# Altium footprint library 贴片.PcbLib: 190 footprints (part 11 of 13)
Each footprint in its own frame and in the unit in brackets; x right, y up, seen from the top. Pads: shape width x height; smd on the part's side, far side on the other; paste and mask are expansions set on the pad; w line width, h text height; cw(c..) or ccw(c..) is an arc to the next point about the centre after c.
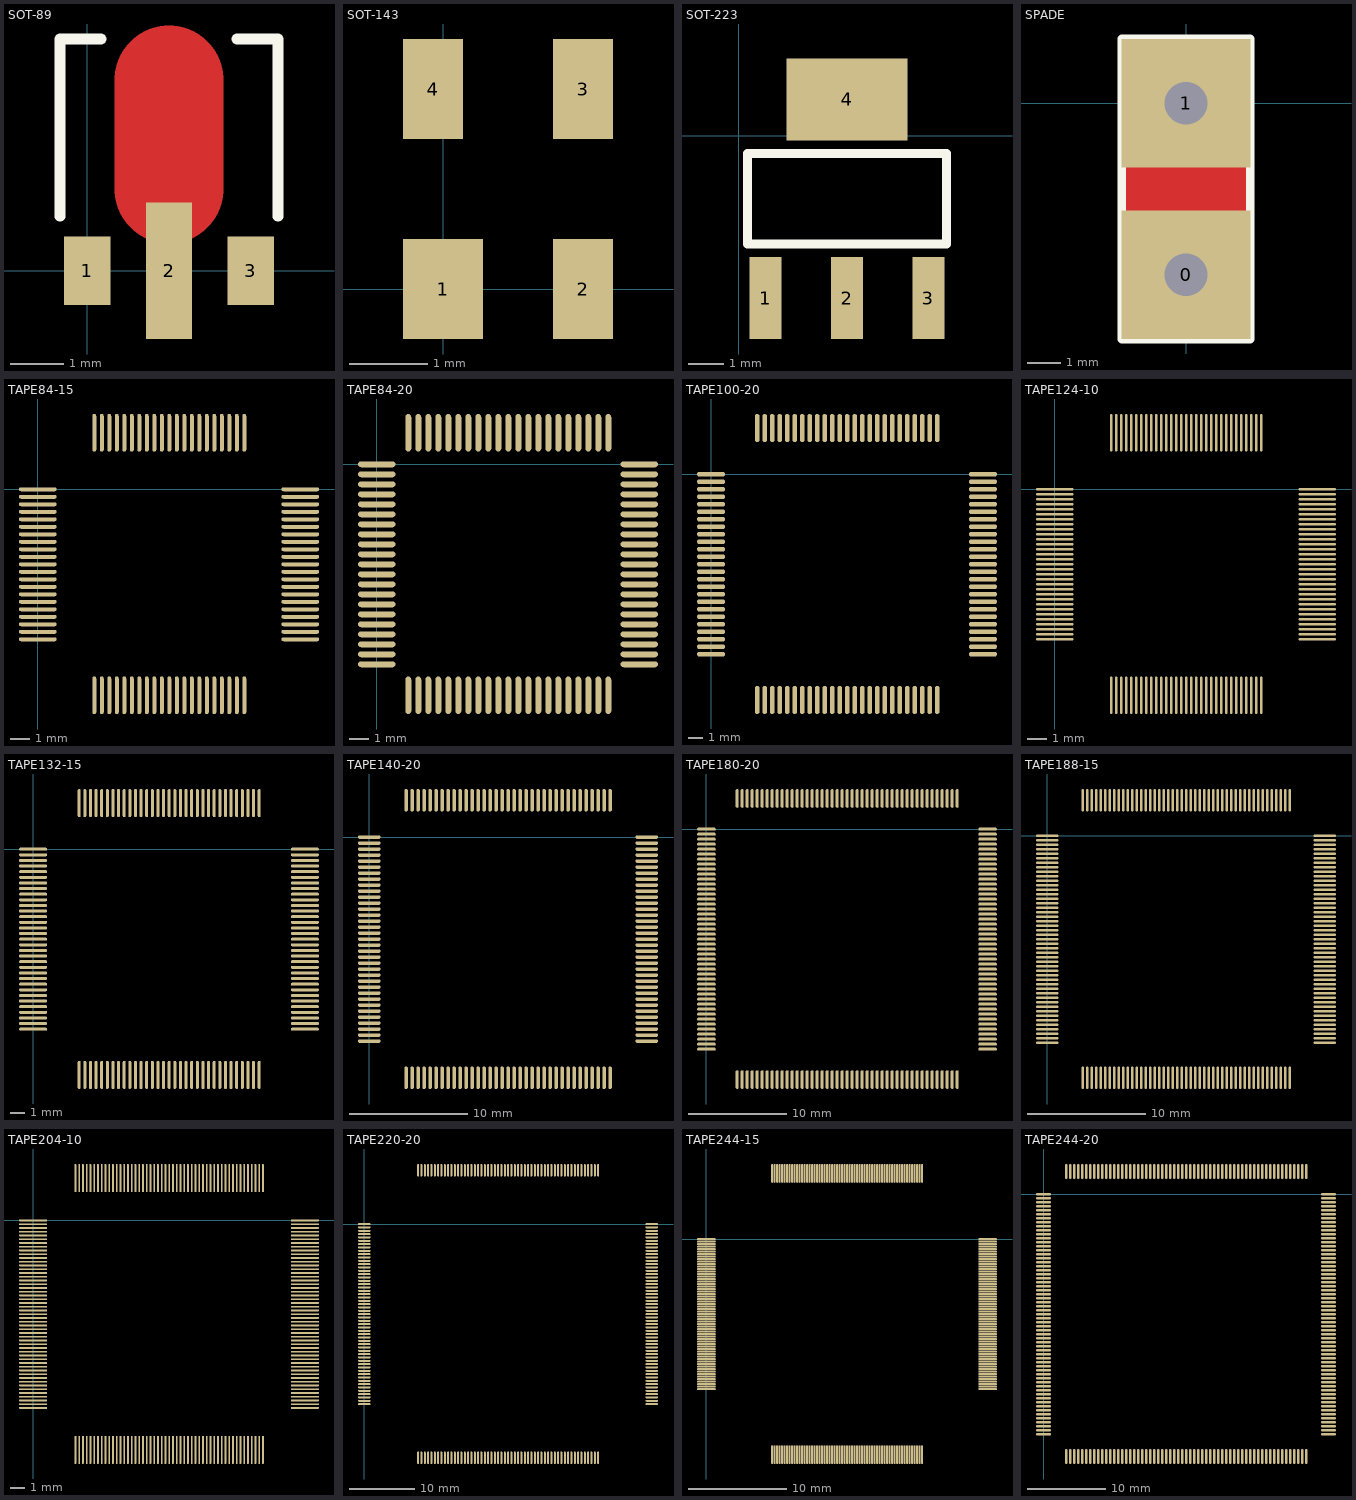
[diagram p10: the footprints below, top view; thin cyan lines are the x and y axes]

## SOT-89 [mil]
pads (3):
  rect 34x50 smd: 1(0,0) 3(120,0)
  rect 34x100 smd: 2(60,0)
TopLayer:
  lines w80: 60,60 60,140
TopOverlay:
  lines w8: -20,40 -20,170 10,170 ; 110,170 140,170 140,40

## SOT-143 [mil]
pads (4):
  rect 40x50 smd: 1(0,0)
  rect 30x50 smd: 2(70,0) 3(70,100) 4(-5,100)

## SOT-223 [mil]
pads (4):
  rect 35.43x90.55 smd: 1(30,-180) 2(120,-180) 3(210,-180)
  rect 133.86x90.55 smd: 4(120,40)
TopOverlay:
  lines w10: 10,-120 230,-120 230,-20 10,-20 10,-120

## SPADE [mil]
pads (2):
  rect 150x150 hole 50: 0(0,-200) 1(0,0)
TopLayer:
  rectangle: -75,-150 75,-50
BottomLayer:
  rectangle: -75,-150 75,-50
TopOverlay:
  lines w10: -75,-275 -75,75 75,75 75,-275 -75,-275

## TAPE84-15 [mil]
pads (84):
  oval 75x8 smd: 1(0,0) 2(0,-15) 3(0,-30) 4(0,-45) 5(0,-60) 6(0,-75) 7(0,-90) 8(0,-105) 9(0,-120) 10(0,-135) 11(0,-150) 12(0,-165) 13(0,-180) 14(0,-195) 15(0,-210) 16(0,-225) 17(0,-240) 18(0,-255) 19(0,-270) 20(0,-285) 21(0,-300) 43(525,-300) 44(525,-285) 45(525,-270) 46(525,-255) 47(525,-240) 48(525,-225) 49(525,-210) 50(525,-195) 51(525,-180) 52(525,-165) 53(525,-150) 54(525,-135) 55(525,-120) 56(525,-105) 57(525,-90) 58(525,-75) 59(525,-60) 60(525,-45) 61(525,-30) 62(525,-15) 63(525,0)
  oval 8x75 smd: 22(113,-412) 23(128,-412) 24(143,-412) 25(158,-412) 26(173,-412) 27(188,-412) 28(203,-412) 29(218,-412) 30(233,-412) 31(248,-412) 32(263,-412) 33(278,-412) 34(293,-412) 35(308,-412) 36(323,-412) 37(338,-412) 38(353,-412) 39(368,-412) 40(383,-412) 41(398,-412) 42(413,-412) 64(413,113) 65(398,113) 66(383,113) 67(368,113) 68(353,113) 69(338,113) 70(323,113) 71(308,113) 72(293,113) 73(278,113) 74(263,113) 75(248,113) 76(233,113) 77(218,113) 78(203,113) 79(188,113) 80(173,113) 81(158,113) 82(143,113) 83(128,113) 84(113,113)

## TAPE84-20 [mil]
pads (84):
  oval 75x12 smd: 1(0,0) 2(0,-20) 3(0,-40) 4(0,-60) 5(0,-80) 6(0,-100) 7(0,-120) 8(0,-140) 9(0,-160) 10(0,-180) 11(0,-200) 12(0,-220) 13(0,-240) 14(0,-260) 15(0,-280) 16(0,-300) 17(0,-320) 18(0,-340) 19(0,-360) 20(0,-380) 21(0,-400) 43(525,-400) 44(525,-380) 45(525,-360) 46(525,-340) 47(525,-320) 48(525,-300) 49(525,-280) 50(525,-260) 51(525,-240) 52(525,-220) 53(525,-200) 54(525,-180) 55(525,-160) 56(525,-140) 57(525,-120) 58(525,-100) 59(525,-80) 60(525,-60) 61(525,-40) 62(525,-20) 63(525,0)
  oval 12x75 smd: 22(63,-462) 23(83,-462) 24(103,-462) 25(123,-462) 26(143,-462) 27(163,-462) 28(183,-462) 29(203,-462) 30(223,-462) 31(243,-462) 32(263,-462) 33(283,-462) 34(303,-462) 35(323,-462) 36(343,-462) 37(363,-462) 38(383,-462) 39(403,-462) 40(423,-462) 41(443,-462) 42(463,-462) 64(463,63) 65(443,63) 66(423,63) 67(403,63) 68(383,63) 69(363,63) 70(343,63) 71(323,63) 72(303,63) 73(283,63) 74(263,63) 75(243,63) 76(223,63) 77(203,63) 78(183,63) 79(163,63) 80(143,63) 81(123,63) 82(103,63) 83(83,63) 84(63,63)

## TAPE100-20 [mil]
pads (100):
  oval 75x12 smd: 1(0,0) 2(0,-20) 3(0,-40) 4(0,-60) 5(0,-80) 6(0,-100) 7(0,-120) 8(0,-140) 9(0,-160) 10(0,-180) 11(0,-200) 12(0,-220) 13(0,-240) 14(0,-260) 15(0,-280) 16(0,-300) 17(0,-320) 18(0,-340) 19(0,-360) 20(0,-380) 21(0,-400) 22(0,-420) 23(0,-440) 24(0,-460) 25(0,-480) 51(725,-480) 52(725,-460) 53(725,-440) 54(725,-420) 55(725,-400) 56(725,-380) 57(725,-360) 58(725,-340) 59(725,-320) 60(725,-300) 61(725,-280) 62(725,-260) 63(725,-240) 64(725,-220) 65(725,-200) 66(725,-180) 67(725,-160) 68(725,-140) 69(725,-120) 70(725,-100) 71(725,-80) 72(725,-60) 73(725,-40) 74(725,-20) 75(725,0)
  oval 12x75 smd: 26(123,-602) 27(143,-602) 28(163,-602) 29(183,-602) 30(203,-602) 31(223,-602) 32(243,-602) 33(263,-602) 34(283,-602) 35(303,-602) 36(323,-602) 37(343,-602) 38(363,-602) 39(383,-602) 40(403,-602) 41(423,-602) 42(443,-602) 43(463,-602) 44(483,-602) 45(503,-602) 46(523,-602) 47(543,-602) 48(563,-602) 49(583,-602) 50(603,-602) 76(603,123) 77(583,123) 78(563,123) 79(543,123) 80(523,123) 81(503,123) 82(483,123) 83(463,123) 84(443,123) 85(423,123) 86(403,123) 87(383,123) 88(363,123) 89(343,123) 90(323,123) 91(303,123) 92(283,123) 93(263,123) 94(243,123) 95(223,123) 96(203,123) 97(183,123) 98(163,123) 99(143,123) 100(123,123)

## TAPE124-10 [mil]
pads (124):
  oval 75x5 smd: 1(0,0) 2(0,-10) 3(0,-20) 4(0,-30) 5(0,-40) 6(0,-50) 7(0,-60) 8(0,-70) 9(0,-80) 10(0,-90) 11(0,-100) 12(0,-110) 13(0,-120) 14(0,-130) 15(0,-140) 16(0,-150) 17(0,-160) 18(0,-170) 19(0,-180) 20(0,-190) 21(0,-200) 22(0,-210) 23(0,-220) 24(0,-230) 25(0,-240) 26(0,-250) 27(0,-260) 28(0,-270) 29(0,-280) 30(0,-290) 31(0,-300) 63(525,-300) 64(525,-290) 65(525,-280) 66(525,-270) 67(525,-260) 68(525,-250) 69(525,-240) 70(525,-230) 71(525,-220) 72(525,-210) 73(525,-200) 74(525,-190) 75(525,-180) 76(525,-170) 77(525,-160) 78(525,-150) 79(525,-140) 80(525,-130) 81(525,-120) 82(525,-110) 83(525,-100) 84(525,-90) 85(525,-80) 86(525,-70) 87(525,-60) 88(525,-50) 89(525,-40) 90(525,-30) 91(525,-20) 92(525,-10) 93(525,0)
  oval 5x75 smd: 32(113,-412) 33(123,-412) 34(133,-412) 35(143,-412) 36(153,-412) 37(163,-412) 38(173,-412) 39(183,-412) 40(193,-412) 41(203,-412) 42(213,-412) 43(223,-412) 44(233,-412) 45(243,-412) 46(253,-412) 47(263,-412) 48(273,-412) 49(283,-412) 50(293,-412) 51(303,-412) 52(313,-412) 53(323,-412) 54(333,-412) 55(343,-412) 56(353,-412) 57(363,-412) 58(373,-412) 59(383,-412) 60(393,-412) 61(403,-412) 62(413,-412) 94(413,113) 95(403,113) 96(393,113) 97(383,113) 98(373,113) 99(363,113) 100(353,113) 101(343,113) 102(333,113) 103(323,113) 104(313,113) 105(303,113) 106(293,113) 107(283,113) 108(273,113) 109(263,113) 110(253,113) 111(243,113) 112(233,113) 113(223,113) 114(213,113) 115(203,113) 116(193,113) 117(183,113) 118(173,113) 119(163,113) 120(153,113) 121(143,113) 122(133,113) 123(123,113) 124(113,113)

## TAPE132-15 [mil]
pads (132):
  oval 75x8 smd: 1(0,0) 2(0,-15) 3(0,-30) 4(0,-45) 5(0,-60) 6(0,-75) 7(0,-90) 8(0,-105) 9(0,-120) 10(0,-135) 11(0,-150) 12(0,-165) 13(0,-180) 14(0,-195) 15(0,-210) 16(0,-225) 17(0,-240) 18(0,-255) 19(0,-270) 20(0,-285) 21(0,-300) 22(0,-315) 23(0,-330) 24(0,-345) 25(0,-360) 26(0,-375) 27(0,-390) 28(0,-405) 29(0,-420) 30(0,-435) 31(0,-450) 32(0,-465) 33(0,-480) 67(725,-480) 68(725,-465) 69(725,-450) 70(725,-435) 71(725,-420) 72(725,-405) 73(725,-390) 74(725,-375) 75(725,-360) 76(725,-345) 77(725,-330) 78(725,-315) 79(725,-300) 80(725,-285) 81(725,-270) 82(725,-255) 83(725,-240) 84(725,-225) 85(725,-210) 86(725,-195) 87(725,-180) 88(725,-165) 89(725,-150) 90(725,-135) 91(725,-120) 92(725,-105) 93(725,-90) 94(725,-75) 95(725,-60) 96(725,-45) 97(725,-30) 98(725,-15) 99(725,0)
  oval 8x75 smd: 34(123,-602) 35(138,-602) 36(153,-602) 37(168,-602) 38(183,-602) 39(198,-602) 40(213,-602) 41(228,-602) 42(243,-602) 43(258,-602) 44(273,-602) 45(288,-602) 46(303,-602) 47(318,-602) 48(333,-602) 49(348,-602) 50(363,-602) 51(378,-602) 52(393,-602) 53(408,-602) 54(423,-602) 55(438,-602) 56(453,-602) 57(468,-602) 58(483,-602) 59(498,-602) 60(513,-602) 61(528,-602) 62(543,-602) 63(558,-602) 64(573,-602) 65(588,-602) 66(603,-602) 100(603,123) 101(588,123) 102(573,123) 103(558,123) 104(543,123) 105(528,123) 106(513,123) 107(498,123) 108(483,123) 109(468,123) 110(453,123) 111(438,123) 112(423,123) 113(408,123) 114(393,123) 115(378,123) 116(363,123) 117(348,123) 118(333,123) 119(318,123) 120(303,123) 121(288,123) 122(273,123) 123(258,123) 124(243,123) 125(228,123) 126(213,123) 127(198,123) 128(183,123) 129(168,123) 130(153,123) 131(138,123) 132(123,123)

## TAPE140-20 [mil]
pads (140):
  oval 75x12 smd: 1(0,0) 2(0,-20) 3(0,-40) 4(0,-60) 5(0,-80) 6(0,-100) 7(0,-120) 8(0,-140) 9(0,-160) 10(0,-180) 11(0,-200) 12(0,-220) 13(0,-240) 14(0,-260) 15(0,-280) 16(0,-300) 17(0,-320) 18(0,-340) 19(0,-360) 20(0,-380) 21(0,-400) 22(0,-420) 23(0,-440) 24(0,-460) 25(0,-480) 26(0,-500) 27(0,-520) 28(0,-540) 29(0,-560) 30(0,-580) 31(0,-600) 32(0,-620) 33(0,-640) 34(0,-660) 35(0,-680) 71(925,-680) 72(925,-660) 73(925,-640) 74(925,-620) 75(925,-600) 76(925,-580) 77(925,-560) 78(925,-540) 79(925,-520) 80(925,-500) 81(925,-480) 82(925,-460) 83(925,-440) 84(925,-420) 85(925,-400) 86(925,-380) 87(925,-360) 88(925,-340) 89(925,-320) 90(925,-300) 91(925,-280) 92(925,-260) 93(925,-240) 94(925,-220) 95(925,-200) 96(925,-180) 97(925,-160) 98(925,-140) 99(925,-120) 100(925,-100) 101(925,-80) 102(925,-60) 103(925,-40) 104(925,-20) 105(925,0)
  oval 12x75 smd: 36(123,-802) 37(143,-802) 38(163,-802) 39(183,-802) 40(203,-802) 41(223,-802) 42(243,-802) 43(263,-802) 44(283,-802) 45(303,-802) 46(323,-802) 47(343,-802) 48(363,-802) 49(383,-802) 50(403,-802) 51(423,-802) 52(443,-802) 53(463,-802) 54(483,-802) 55(503,-802) 56(523,-802) 57(543,-802) 58(563,-802) 59(583,-802) 60(603,-802) 61(623,-802) 62(643,-802) 63(663,-802) 64(683,-802) 65(703,-802) 66(723,-802) 67(743,-802) 68(763,-802) 69(783,-802) 70(803,-802) 106(803,123) 107(783,123) 108(763,123) 109(743,123) 110(723,123) 111(703,123) 112(683,123) 113(663,123) 114(643,123) 115(623,123) 116(603,123) 117(583,123) 118(563,123) 119(543,123) 120(523,123) 121(503,123) 122(483,123) 123(463,123) 124(443,123) 125(423,123) 126(403,123) 127(383,123) 128(363,123) 129(343,123) 130(323,123) 131(303,123) 132(283,123) 133(263,123) 134(243,123) 135(223,123) 136(203,123) 137(183,123) 138(163,123) 139(143,123) 140(123,123)

## TAPE180-20 [mil]
pads (180):
  oval 75x12 smd: 1(0,0) 2(0,-20) 3(0,-40) 4(0,-60) 5(0,-80) 6(0,-100) 7(0,-120) 8(0,-140) 9(0,-160) 10(0,-180) 11(0,-200) 12(0,-220) 13(0,-240) 14(0,-260) 15(0,-280) 16(0,-300) 17(0,-320) 18(0,-340) 19(0,-360) 20(0,-380) 21(0,-400) 22(0,-420) 23(0,-440) 24(0,-460) 25(0,-480) 26(0,-500) 27(0,-520) 28(0,-540) 29(0,-560) 30(0,-580) 31(0,-600) 32(0,-620) 33(0,-640) 34(0,-660) 35(0,-680) 36(0,-700) 37(0,-720) 38(0,-740) 39(0,-760) 40(0,-780) 41(0,-800) 42(0,-820) 43(0,-840) 44(0,-860) 45(0,-880) 91(1125,-880) 92(1125,-860) 93(1125,-840) 94(1125,-820) 95(1125,-800) 96(1125,-780) 97(1125,-760) 98(1125,-740) 99(1125,-720) 100(1125,-700) 101(1125,-680) 102(1125,-660) 103(1125,-640) 104(1125,-620) 105(1125,-600) 106(1125,-580) 107(1125,-560) 108(1125,-540) 109(1125,-520) 110(1125,-500) 111(1125,-480) 112(1125,-460) 113(1125,-440) 114(1125,-420) 115(1125,-400) 116(1125,-380) 117(1125,-360) 118(1125,-340) 119(1125,-320) 120(1125,-300) 121(1125,-280) 122(1125,-260) 123(1125,-240) 124(1125,-220) 125(1125,-200) 126(1125,-180) 127(1125,-160) 128(1125,-140) 129(1125,-120) 130(1125,-100) 131(1125,-80) 132(1125,-60) 133(1125,-40) 134(1125,-20) 135(1125,0)
  oval 12x75 smd: 46(123,-1002) 47(143,-1002) 48(163,-1002) 49(183,-1002) 50(203,-1002) 51(223,-1002) 52(243,-1002) 53(263,-1002) 54(283,-1002) 55(303,-1002) 56(323,-1002) 57(343,-1002) 58(363,-1002) 59(383,-1002) 60(403,-1002) 61(423,-1002) 62(443,-1002) 63(463,-1002) 64(483,-1002) 65(503,-1002) 66(523,-1002) 67(543,-1002) 68(563,-1002) 69(583,-1002) 70(603,-1002) 71(623,-1002) 72(643,-1002) 73(663,-1002) 74(683,-1002) 75(703,-1002) 76(723,-1002) 77(743,-1002) 78(763,-1002) 79(783,-1002) 80(803,-1002) 81(823,-1002) 82(843,-1002) 83(863,-1002) 84(883,-1002) 85(903,-1002) 86(923,-1002) 87(943,-1002) 88(963,-1002) 89(983,-1002) 90(1003,-1002) 136(1003,123) 137(983,123) 138(963,123) 139(943,123) 140(923,123) 141(903,123) 142(883,123) 143(863,123) 144(843,123) 145(823,123) 146(803,123) 147(783,123) 148(763,123) 149(743,123) 150(723,123) 151(703,123) 152(683,123) 153(663,123) 154(643,123) 155(623,123) 156(603,123) 157(583,123) 158(563,123) 159(543,123) 160(523,123) 161(503,123) 162(483,123) 163(463,123) 164(443,123) 165(423,123) 166(403,123) 167(383,123) 168(363,123) 169(343,123) 170(323,123) 171(303,123) 172(283,123) 173(263,123) 174(243,123) 175(223,123) 176(203,123) 177(183,123) 178(163,123) 179(143,123) 180(123,123)

## TAPE188-15 [mil]
pads (188):
  oval 75x8 smd: 1(0,0) 2(0,-15) 3(0,-30) 4(0,-45) 5(0,-60) 6(0,-75) 7(0,-90) 8(0,-105) 9(0,-120) 10(0,-135) 11(0,-150) 12(0,-165) 13(0,-180) 14(0,-195) 15(0,-210) 16(0,-225) 17(0,-240) 18(0,-255) 19(0,-270) 20(0,-285) 21(0,-300) 22(0,-315) 23(0,-330) 24(0,-345) 25(0,-360) 26(0,-375) 27(0,-390) 28(0,-405) 29(0,-420) 30(0,-435) 31(0,-450) 32(0,-465) 33(0,-480) 34(0,-495) 35(0,-510) 36(0,-525) 37(0,-540) 38(0,-555) 39(0,-570) 40(0,-585) 41(0,-600) 42(0,-615) 43(0,-630) 44(0,-645) 45(0,-660) 46(0,-675) 47(0,-690) 95(925,-690) 96(925,-675) 97(925,-660) 98(925,-645) 99(925,-630) 100(925,-615) 101(925,-600) 102(925,-585) 103(925,-570) 104(925,-555) 105(925,-540) 106(925,-525) 107(925,-510) 108(925,-495) 109(925,-480) 110(925,-465) 111(925,-450) 112(925,-435) 113(925,-420) 114(925,-405) 115(925,-390) 116(925,-375) 117(925,-360) 118(925,-345) 119(925,-330) 120(925,-315) 121(925,-300) 122(925,-285) 123(925,-270) 124(925,-255) 125(925,-240) 126(925,-225) 127(925,-210) 128(925,-195) 129(925,-180) 130(925,-165) 131(925,-150) 132(925,-135) 133(925,-120) 134(925,-105) 135(925,-90) 136(925,-75) 137(925,-60) 138(925,-45) 139(925,-30) 140(925,-15) 141(925,0)
  oval 8x75 smd: 48(118,-807) 49(133,-807) 50(148,-807) 51(163,-807) 52(178,-807) 53(193,-807) 54(208,-807) 55(223,-807) 56(238,-807) 57(253,-807) 58(268,-807) 59(283,-807) 60(298,-807) 61(313,-807) 62(328,-807) 63(343,-807) 64(358,-807) 65(373,-807) 66(388,-807) 67(403,-807) 68(418,-807) 69(433,-807) 70(448,-807) 71(463,-807) 72(478,-807) 73(493,-807) 74(508,-807) 75(523,-807) 76(538,-807) 77(553,-807) 78(568,-807) 79(583,-807) 80(598,-807) 81(613,-807) 82(628,-807) 83(643,-807) 84(658,-807) 85(673,-807) 86(688,-807) 87(703,-807) 88(718,-807) 89(733,-807) 90(748,-807) 91(763,-807) 92(778,-807) 93(793,-807) 94(808,-807) 142(808,118) 143(793,118) 144(778,118) 145(763,118) 146(748,118) 147(733,118) 148(718,118) 149(703,118) 150(688,118) 151(673,118) 152(658,118) 153(643,118) 154(628,118) 155(613,118) 156(598,118) 157(583,118) 158(568,118) 159(553,118) 160(538,118) 161(523,118) 162(508,118) 163(493,118) 164(478,118) 165(463,118) 166(448,118) 167(433,118) 168(418,118) 169(403,118) 170(388,118) 171(373,118) 172(358,118) 173(343,118) 174(328,118) 175(313,118) 176(298,118) 177(283,118) 178(268,118) 179(253,118) 180(238,118) 181(223,118) 182(208,118) 183(193,118) 184(178,118) 185(163,118) 186(148,118) 187(133,118) 188(118,118)

## TAPE204-10 [mil]
pads (204):
  oval 75x5 smd: 1(0,0) 2(0,-10) 3(0,-20) 4(0,-30) 5(0,-40) 6(0,-50) 7(0,-60) 8(0,-70) 9(0,-80) 10(0,-90) 11(0,-100) 12(0,-110) 13(0,-120) 14(0,-130) 15(0,-140) 16(0,-150) 17(0,-160) 18(0,-170) 19(0,-180) 20(0,-190) 21(0,-200) 22(0,-210) 23(0,-220) 24(0,-230) 25(0,-240) 26(0,-250) 27(0,-260) 28(0,-270) 29(0,-280) 30(0,-290) 31(0,-300) 32(0,-310) 33(0,-320) 34(0,-330) 35(0,-340) 36(0,-350) 37(0,-360) 38(0,-370) 39(0,-380) 40(0,-390) 41(0,-400) 42(0,-410) 43(0,-420) 44(0,-430) 45(0,-440) 46(0,-450) 47(0,-460) 48(0,-470) 49(0,-480) 50(0,-490) 51(0,-500) 103(725,-500) 104(725,-490) 105(725,-480) 106(725,-470) 107(725,-460) 108(725,-450) 109(725,-440) 110(725,-430) 111(725,-420) 112(725,-410) 113(725,-400) 114(725,-390) 115(725,-380) 116(725,-370) 117(725,-360) 118(725,-350) 119(725,-340) 120(725,-330) 121(725,-320) 122(725,-310) 123(725,-300) 124(725,-290) 125(725,-280) 126(725,-270) 127(725,-260) 128(725,-250) 129(725,-240) 130(725,-230) 131(725,-220) 132(725,-210) 133(725,-200) 134(725,-190) 135(725,-180) 136(725,-170) 137(725,-160) 138(725,-150) 139(725,-140) 140(725,-130) 141(725,-120) 142(725,-110) 143(725,-100) 144(725,-90) 145(725,-80) 146(725,-70) 147(725,-60) 148(725,-50) 149(725,-40) 150(725,-30) 151(725,-20) 152(725,-10) 153(725,0)
  oval 5x75 smd: 52(113,-612) 53(123,-612) 54(133,-612) 55(143,-612) 56(153,-612) 57(163,-612) 58(173,-612) 59(183,-612) 60(193,-612) 61(203,-612) 62(213,-612) 63(223,-612) 64(233,-612) 65(243,-612) 66(253,-612) 67(263,-612) 68(273,-612) 69(283,-612) 70(293,-612) 71(303,-612) 72(313,-612) 73(323,-612) 74(333,-612) 75(343,-612) 76(353,-612) 77(363,-612) 78(373,-612) 79(383,-612) 80(393,-612) 81(403,-612) 82(413,-612) 83(423,-612) 84(433,-612) 85(443,-612) 86(453,-612) 87(463,-612) 88(473,-612) 89(483,-612) 90(493,-612) 91(503,-612) 92(513,-612) 93(523,-612) 94(533,-612) 95(543,-612) 96(553,-612) 97(563,-612) 98(573,-612) 99(583,-612) 100(593,-612) 101(603,-612) 102(613,-612) 154(613,113) 155(603,113) 156(593,113) 157(583,113) 158(573,113) 159(563,113) 160(553,113) 161(543,113) 162(533,113) 163(523,113) 164(513,113) 165(503,113) 166(493,113) 167(483,113) 168(473,113) 169(463,113) 170(453,113) 171(443,113) 172(433,113) 173(423,113) 174(413,113) 175(403,113) 176(393,113) 177(383,113) 178(373,113) 179(363,113) 180(353,113) 181(343,113) 182(333,113) 183(323,113) 184(313,113) 185(303,113) 186(293,113) 187(283,113) 188(273,113) 189(263,113) 190(253,113) 191(243,113) 192(233,113) 193(223,113) 194(213,113) 195(203,113) 196(193,113) 197(183,113) 198(173,113) 199(163,113) 200(153,113) 201(143,113) 202(133,113) 203(123,113) 204(113,113)

## TAPE220-20 [mil]
pads (220):
  oval 75x12 smd: 1(0,0) 2(0,-20) 3(0,-40) 4(0,-60) 5(0,-80) 6(0,-100) 7(0,-120) 8(0,-140) 9(0,-160) 10(0,-180) 11(0,-200) 12(0,-220) 13(0,-240) 14(0,-260) 15(0,-280) 16(0,-300) 17(0,-320) 18(0,-340) 19(0,-360) 20(0,-380) 21(0,-400) 22(0,-420) 23(0,-440) 24(0,-460) 25(0,-480) 26(0,-500) 27(0,-520) 28(0,-540) 29(0,-560) 30(0,-580) 31(0,-600) 32(0,-620) 33(0,-640) 34(0,-660) 35(0,-680) 36(0,-700) 37(0,-720) 38(0,-740) 39(0,-760) 40(0,-780) 41(0,-800) 42(0,-820) 43(0,-840) 44(0,-860) 45(0,-880) 46(0,-900) 47(0,-920) 48(0,-940) 49(0,-960) 50(0,-980) 51(0,-1000) 52(0,-1020) 53(0,-1040) 54(0,-1060) 55(0,-1080) 111(1725,-1080) 112(1725,-1060) 113(1725,-1040) 114(1725,-1020) 115(1725,-1000) 116(1725,-980) 117(1725,-960) 118(1725,-940) 119(1725,-920) 120(1725,-900) 121(1725,-880) 122(1725,-860) 123(1725,-840) 124(1725,-820) 125(1725,-800) 126(1725,-780) 127(1725,-760) 128(1725,-740) 129(1725,-720) 130(1725,-700) 131(1725,-680) 132(1725,-660) 133(1725,-640) 134(1725,-620) 135(1725,-600) 136(1725,-580) 137(1725,-560) 138(1725,-540) 139(1725,-520) 140(1725,-500) 141(1725,-480) 142(1725,-460) 143(1725,-440) 144(1725,-420) 145(1725,-400) 146(1725,-380) 147(1725,-360) 148(1725,-340) 149(1725,-320) 150(1725,-300) 151(1725,-280) 152(1725,-260) 153(1725,-240) 154(1725,-220) 155(1725,-200) 156(1725,-180) 157(1725,-160) 158(1725,-140) 159(1725,-120) 160(1725,-100) 161(1725,-80) 162(1725,-60) 163(1725,-40) 164(1725,-20) 165(1725,0)
  oval 12x75 smd: 56(323,-1402) 57(343,-1402) 58(363,-1402) 59(383,-1402) 60(403,-1402) 61(423,-1402) 62(443,-1402) 63(463,-1402) 64(483,-1402) 65(503,-1402) 66(523,-1402) 67(543,-1402) 68(563,-1402) 69(583,-1402) 70(603,-1402) 71(623,-1402) 72(643,-1402) 73(663,-1402) 74(683,-1402) 75(703,-1402) 76(723,-1402) 77(743,-1402) 78(763,-1402) 79(783,-1402) 80(803,-1402) 81(823,-1402) 82(843,-1402) 83(863,-1402) 84(883,-1402) 85(903,-1402) 86(923,-1402) 87(943,-1402) 88(963,-1402) 89(983,-1402) 90(1003,-1402) 91(1023,-1402) 92(1043,-1402) 93(1063,-1402) 94(1083,-1402) 95(1103,-1402) 96(1123,-1402) 97(1143,-1402) 98(1163,-1402) 99(1183,-1402) 100(1203,-1402) 101(1223,-1402) 102(1243,-1402) 103(1263,-1402) 104(1283,-1402) 105(1303,-1402) 106(1323,-1402) 107(1343,-1402) 108(1363,-1402) 109(1383,-1402) 110(1403,-1402) 166(1403,323) 167(1383,323) 168(1363,323) 169(1343,323) 170(1323,323) 171(1303,323) 172(1283,323) 173(1263,323) 174(1243,323) 175(1223,323) 176(1203,323) 177(1183,323) 178(1163,323) 179(1143,323) 180(1123,323) 181(1103,323) 182(1083,323) 183(1063,323) 184(1043,323) 185(1023,323) 186(1003,323) 187(983,323) 188(963,323) 189(943,323) 190(923,323) 191(903,323) 192(883,323) 193(863,323) 194(843,323) 195(823,323) 196(803,323) 197(783,323) 198(763,323) 199(743,323) 200(723,323) 201(703,323) 202(683,323) 203(663,323) 204(643,323) 205(623,323) 206(603,323) 207(583,323) 208(563,323) 209(543,323) 210(523,323) 211(503,323) 212(483,323) 213(463,323) 214(443,323) 215(423,323) 216(403,323) 217(383,323) 218(363,323) 219(343,323) 220(323,323)

## TAPE244-15 [mil]
pads (244):
  oval 75x8 smd: 1(0,0) 2(0,-10) 3(0,-20) 4(0,-30) 5(0,-40) 6(0,-50) 7(0,-60) 8(0,-70) 9(0,-80) 10(0,-90) 11(0,-100) 12(0,-110) 13(0,-120) 14(0,-130) 15(0,-140) 16(0,-150) 17(0,-160) 18(0,-170) 19(0,-180) 20(0,-190) 21(0,-200) 22(0,-210) 23(0,-220) 24(0,-230) 25(0,-240) 26(0,-250) 27(0,-260) 28(0,-270) 29(0,-280) 30(0,-290) 31(0,-300) 32(0,-310) 33(0,-320) 34(0,-330) 35(0,-340) 36(0,-350) 37(0,-360) 38(0,-370) 39(0,-380) 40(0,-390) 41(0,-400) 42(0,-410) 43(0,-420) 44(0,-430) 45(0,-440) 46(0,-450) 47(0,-460) 48(0,-470) 49(0,-480) 50(0,-490) 51(0,-500) 52(0,-510) 53(0,-520) 54(0,-530) 55(0,-540) 56(0,-550) 57(0,-560) 58(0,-570) 59(0,-580) 60(0,-590) 61(0,-600) 123(1125,-600) 124(1125,-590) 125(1125,-580) 126(1125,-570) 127(1125,-560) 128(1125,-550) 129(1125,-540) 130(1125,-530) 131(1125,-520) 132(1125,-510) 133(1125,-500) 134(1125,-490) 135(1125,-480) 136(1125,-470) 137(1125,-460) 138(1125,-450) 139(1125,-440) 140(1125,-430) 141(1125,-420) 142(1125,-410) 143(1125,-400) 144(1125,-390) 145(1125,-380) 146(1125,-370) 147(1125,-360) 148(1125,-350) 149(1125,-340) 150(1125,-330) 151(1125,-320) 152(1125,-310) 153(1125,-300) 154(1125,-290) 155(1125,-280) 156(1125,-270) 157(1125,-260) 158(1125,-250) 159(1125,-240) 160(1125,-230) 161(1125,-220) 162(1125,-210) 163(1125,-200) 164(1125,-190) 165(1125,-180) 166(1125,-170) 167(1125,-160) 168(1125,-150) 169(1125,-140) 170(1125,-130) 171(1125,-120) 172(1125,-110) 173(1125,-100) 174(1125,-90) 175(1125,-80) 176(1125,-70) 177(1125,-60) 178(1125,-50) 179(1125,-40) 180(1125,-30) 181(1125,-20) 182(1125,-10) 183(1125,0)
  oval 8x75 smd: 62(263,-862) 63(273,-862) 64(283,-862) 65(293,-862) 66(303,-862) 67(313,-862) 68(323,-862) 69(333,-862) 70(343,-862) 71(353,-862) 72(363,-862) 73(373,-862) 74(383,-862) 75(393,-862) 76(403,-862) 77(413,-862) 78(423,-862) 79(433,-862) 80(443,-862) 81(453,-862) 82(463,-862) 83(473,-862) 84(483,-862) 85(493,-862) 86(503,-862) 87(513,-862) 88(523,-862) 89(533,-862) 90(543,-862) 91(553,-862) 92(563,-862) 93(573,-862) 94(583,-862) 95(593,-862) 96(603,-862) 97(613,-862) 98(623,-862) 99(633,-862) 100(643,-862) 101(653,-862) 102(663,-862) 103(673,-862) 104(683,-862) 105(693,-862) 106(703,-862) 107(713,-862) 108(723,-862) 109(733,-862) 110(743,-862) 111(753,-862) 112(763,-862) 113(773,-862) 114(783,-862) 115(793,-862) 116(803,-862) 117(813,-862) 118(823,-862) 119(833,-862) 120(843,-862) 121(853,-862) 122(863,-862) 184(863,263) 185(853,263) 186(843,263) 187(833,263) 188(823,263) 189(813,263) 190(803,263) 191(793,263) 192(783,263) 193(773,263) 194(763,263) 195(753,263) 196(743,263) 197(733,263) 198(723,263) 199(713,263) 200(703,263) 201(693,263) 202(683,263) 203(673,263) 204(663,263) 205(653,263) 206(643,263) 207(633,263) 208(623,263) 209(613,263) 210(603,263) 211(593,263) 212(583,263) 213(573,263) 214(563,263) 215(553,263) 216(543,263) 217(533,263) 218(523,263) 219(513,263) 220(503,263) 221(493,263) 222(483,263) 223(473,263) 224(463,263) 225(453,263) 226(443,263) 227(433,263) 228(423,263) 229(413,263) 230(403,263) 231(393,263) 232(383,263) 233(373,263) 234(363,263) 235(353,263) 236(343,263) 237(333,263) 238(323,263) 239(313,263) 240(303,263) 241(293,263) 242(283,263) 243(273,263) 244(263,263)

## TAPE244-20 [mil]
pads (244):
  oval 75x12 smd: 1(0,0) 2(0,-20) 3(0,-40) 4(0,-60) 5(0,-80) 6(0,-100) 7(0,-120) 8(0,-140) 9(0,-160) 10(0,-180) 11(0,-200) 12(0,-220) 13(0,-240) 14(0,-260) 15(0,-280) 16(0,-300) 17(0,-320) 18(0,-340) 19(0,-360) 20(0,-380) 21(0,-400) 22(0,-420) 23(0,-440) 24(0,-460) 25(0,-480) 26(0,-500) 27(0,-520) 28(0,-540) 29(0,-560) 30(0,-580) 31(0,-600) 32(0,-620) 33(0,-640) 34(0,-660) 35(0,-680) 36(0,-700) 37(0,-720) 38(0,-740) 39(0,-760) 40(0,-780) 41(0,-800) 42(0,-820) 43(0,-840) 44(0,-860) 45(0,-880) 46(0,-900) 47(0,-920) 48(0,-940) 49(0,-960) 50(0,-980) 51(0,-1000) 52(0,-1020) 53(0,-1040) 54(0,-1060) 55(0,-1080) 56(0,-1100) 57(0,-1120) 58(0,-1140) 59(0,-1160) 60(0,-1180) 61(0,-1200) 123(1425,-1200) 124(1425,-1180) 125(1425,-1160) 126(1425,-1140) 127(1425,-1120) 128(1425,-1100) 129(1425,-1080) 130(1425,-1060) 131(1425,-1040) 132(1425,-1020) 133(1425,-1000) 134(1425,-980) 135(1425,-960) 136(1425,-940) 137(1425,-920) 138(1425,-900) 139(1425,-880) 140(1425,-860) 141(1425,-840) 142(1425,-820) 143(1425,-800) 144(1425,-780) 145(1425,-760) 146(1425,-740) 147(1425,-720) 148(1425,-700) 149(1425,-680) 150(1425,-660) 151(1425,-640) 152(1425,-620) 153(1425,-600) 154(1425,-580) 155(1425,-560) 156(1425,-540) 157(1425,-520) 158(1425,-500) 159(1425,-480) 160(1425,-460) 161(1425,-440) 162(1425,-420) 163(1425,-400) 164(1425,-380) 165(1425,-360) 166(1425,-340) 167(1425,-320) 168(1425,-300) 169(1425,-280) 170(1425,-260) 171(1425,-240) 172(1425,-220) 173(1425,-200) 174(1425,-180) 175(1425,-160) 176(1425,-140) 177(1425,-120) 178(1425,-100) 179(1425,-80) 180(1425,-60) 181(1425,-40) 182(1425,-20) 183(1425,0)
  oval 12x75 smd: 62(113,-1312) 63(133,-1312) 64(153,-1312) 65(173,-1312) 66(193,-1312) 67(213,-1312) 68(233,-1312) 69(253,-1312) 70(273,-1312) 71(293,-1312) 72(313,-1312) 73(333,-1312) 74(353,-1312) 75(373,-1312) 76(393,-1312) 77(413,-1312) 78(433,-1312) 79(453,-1312) 80(473,-1312) 81(493,-1312) 82(513,-1312) 83(533,-1312) 84(553,-1312) 85(573,-1312) 86(593,-1312) 87(613,-1312) 88(633,-1312) 89(653,-1312) 90(673,-1312) 91(693,-1312) 92(713,-1312) 93(733,-1312) 94(753,-1312) 95(773,-1312) 96(793,-1312) 97(813,-1312) 98(833,-1312) 99(853,-1312) 100(873,-1312) 101(893,-1312) 102(913,-1312) 103(933,-1312) 104(953,-1312) 105(973,-1312) 106(993,-1312) 107(1013,-1312) 108(1033,-1312) 109(1053,-1312) 110(1073,-1312) 111(1093,-1312) 112(1113,-1312) 113(1133,-1312) 114(1153,-1312) 115(1173,-1312) 116(1193,-1312) 117(1213,-1312) 118(1233,-1312) 119(1253,-1312) 120(1273,-1312) 121(1293,-1312) 122(1313,-1312) 184(1313,113) 185(1293,113) 186(1273,113) 187(1253,113) 188(1233,113) 189(1213,113) 190(1193,113) 191(1173,113) 192(1153,113) 193(1133,113) 194(1113,113) 195(1093,113) 196(1073,113) 197(1053,113) 198(1033,113) 199(1013,113) 200(993,113) 201(973,113) 202(953,113) 203(933,113) 204(913,113) 205(893,113) 206(873,113) 207(853,113) 208(833,113) 209(813,113) 210(793,113) 211(773,113) 212(753,113) 213(733,113) 214(713,113) 215(693,113) 216(673,113) 217(653,113) 218(633,113) 219(613,113) 220(593,113) 221(573,113) 222(553,113) 223(533,113) 224(513,113) 225(493,113) 226(473,113) 227(453,113) 228(433,113) 229(413,113) 230(393,113) 231(373,113) 232(353,113) 233(333,113) 234(313,113) 235(293,113) 236(273,113) 237(253,113) 238(233,113) 239(213,113) 240(193,113) 241(173,113) 242(153,113) 243(133,113) 244(113,113)